# EAGLE library part SC805AMLTRT (library Battery Chargers)
Charger IC Multi-Chemistry 10-MLPD (3x3) Manufacturer's datasheet <https://semtech.my.salesforce.com/sfc/p/#E0000000JelG/a/2R0000001OEQ/7JzwfcdzsCvohq9cBLmXhhsP54zR1hlWoz5y0sxCTBo>
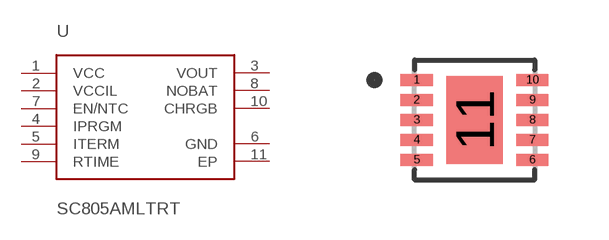
[diagram p21: symbol with the pads of SC805AMLTRT; footprint SC805AMLTRT]

Designator prefix U

## SC805AMLTRT (CREATED_BY: PCBLayout.com; DIGIKEY_PART_NUMBER: SC805AMLTRTCT-ND; MANUFACTURER: Semtech Corporation; MPN: SC805AMLTRT; PACKAGE: 10-MLPD)  [SC805AMLTRT]
1  VCC  pwr
2  VCCIL  in
3  VOUT  out
4  IPRGM  pas
5  ITERM  pas
6  GND  pwr
7  EN/NTC  in
8  NOBAT  out
9  RTIME  pas
10  CHRGB  out
11  EP  pwr

## Footprint SC805AMLTRT (pad centres in mm)
smd 0.8 x 0.3: 1 -1.45,1; 2 -1.45,0.5; 3 -1.45,0; 4 -1.45,-0.5; 5 -1.45,-1; 6 1.45,-1; 7 1.45,-0.5; 8 1.45,0; 9 1.45,0.5; 10 1.45,1
smd 1.4 x 2.2: 11 0,0